# EAGLE library part ESP32-WROOM-32E (library CDC Library v117)
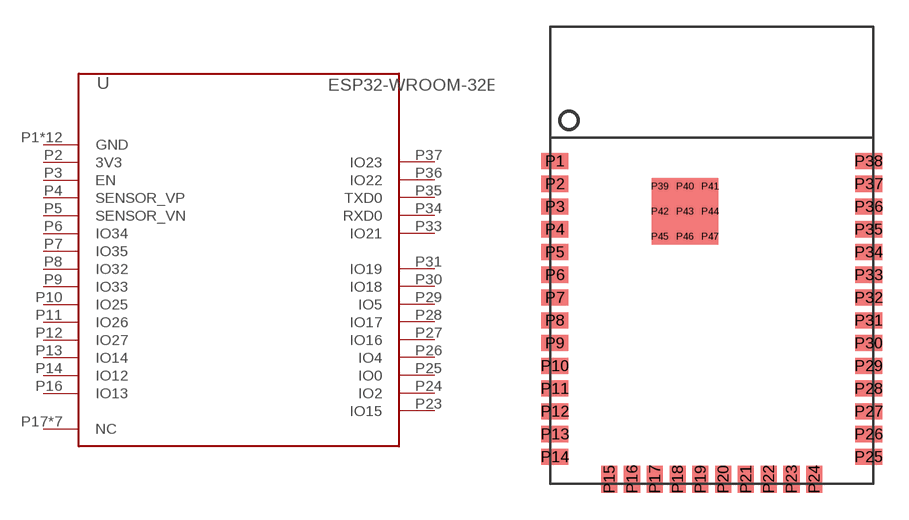
[diagram p13: symbol with the pads of ESP32-WROOM-32E; footprint ESP32-WROOM-32E]

Designator prefix -

## ESP32-WROOM-32E  [ESP32-WROOM-32E]
P1  GND
P2  3V3
P3  EN
P4  SENSOR_VP
P5  SENSOR_VN
P6  IO34
P7  IO35
P8  IO32
P9  IO33
P10  IO25
P11  IO26
P12  IO27
P13  IO14
P14  IO12
P15  GND
P16  IO13
P17  NC
P18  NC
P19  NC
P20  NC
P21  NC
P22  NC
P23  IO15
P24  IO2
P25  IO0
P26  IO4
P27  IO16
P28  IO17
P29  IO5
P30  IO18
P31  IO19
P32  NC
P33  IO21
P34  RXD0
P35  TXD0
P36  IO22
P37  IO23
P38  GND
P39  GND
P40  GND
P41  GND
P42  GND
P43  GND
P44  GND
P45  GND
P46  GND
P47  GND

## Footprint ESP32-WROOM-32E (pad centres in mm)
smd 1.5 x 0.9: P1 -8.75,5.26; P2 -8.75,3.99; P3 -8.75,2.72; P4 -8.75,1.45; P5 -8.75,0.18; P6 -8.75,-1.09; P7 -8.75,-2.36; P8 -8.75,-3.63; P9 -8.75,-4.9; P10 -8.75,-6.17; P11 -8.75,-7.44; P12 -8.75,-8.71; P13 -8.75,-9.98; P14 -8.75,-11.25; P25 8.75,-11.25; P26 8.75,-9.98; P27 8.75,-8.71; P28 8.75,-7.44; P29 8.75,-6.17; P30 8.75,-4.9; P31 8.75,-3.63; P32 8.75,-2.36; P33 8.75,-1.09; P34 8.75,0.18; P35 8.75,1.45; P36 8.75,2.72; P37 8.75,3.99; P38 8.75,5.26
smd 0.9 x 1.5: P15 -5.715,-12.5; P16 -4.445,-12.5; P17 -3.175,-12.5; P18 -1.905,-12.5; P19 -0.635,-12.5; P20 0.635,-12.5; P21 1.905,-12.5; P22 3.175,-12.5; P23 4.445,-12.5; P24 5.715,-12.5
smd 0.9 x 0.9: P39 -2.9,3.86; P40 -1.5,3.86; P41 -0.1,3.86; P42 -2.9,2.46; P43 -1.5,2.46; P44 -0.1,2.46; P45 -2.9,1.06; P46 -1.5,1.06; P47 -0.1,1.06